# EAGLE library part STECKVERBINDER_3-POL (library e-steckverbinder)
Steckverbinder, 3-pol.
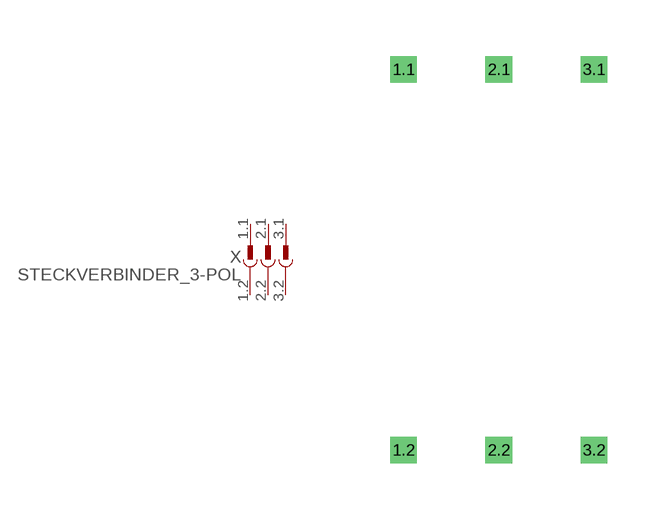
[diagram p0: symbol with the pads of STECKVERBINDER-3-POLIG; footprint STECKVERBINDER-3-POLIG]

Designator prefix X

## STECKVERBINDER_3-POL  [STECKVERBINDER-3-POLIG]
1.1  1.1  pas
1.2  1.2  pas
2.1  2.1  pas
2.2  2.2  pas
3.1  3.1  pas
3.2  3.2  pas

## Footprint STECKVERBINDER-3-POLIG (pad centres in mm)
Dummy
drill 0.2 pad 0.6 square: 1.1 -2.54,5.08; 1.2 -2.54,-5.08; 2.1 0,5.08; 2.2 0,-5.08; 3.1 2.54,5.08; 3.2 2.54,-5.08